# Altium schematic symbol library Res_Vishay_CRCW060322R0FKEAHP_eec.SchLib: 1 symbol
Pins are listed as number, name and electrical type; pins without a type are passive.

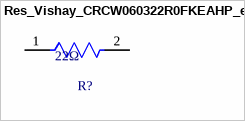
[diagram p0: symbol Res_Vishay_CRCW060322R0FKEAHP_eec]

## Res_Vishay_CRCW060322R0FKEAHP_eec
designator R?  Resistance: 22Ω
RES SMD 22 OHM 1% 1/4W 0603; Part Number: CRCW060322R0FKEAHP; Manufacturer: Vishay; Value: 22Ω; Mfg Package Ident: CRCW0603; Power: 250mW; helpURL: https://upverter.com/upn/revision/69fcd358f3beb7dc/; ComponentLink2Description: Datasheet; Temperature: -55°C to +155°C; Package: CRCW0603; Supplier 2: Mouser; Price: 0.0625785164154; Supplier 1: Digi-Key; ComponentLink1URL: https://upverter.com/upn/revision/69fcd358f3beb7dc/; Supplier Part Number 2: 71-CRCW060322R0FKEAH; Supplier Part Number 1: 541-22.0SCT-ND; ComponentLink1Description: Upverter; ComponentLink2URL: http://www.vishay.com/docs/20043/crcwhpe3.pdf; RoHS: TRUE; Mouser Part Number: 71-CRCW060322R0FKEAH; Temperature Range High: +155°C; Digikey Description: RES SMD 22 OHM 1% 1/4W 0603; Digikey Part Number: 541-22.0SCT-ND; Lead Free: yes; Temperature Range Low: -55°C
footprint Vishay_CRCW0603_0
pins: 1, 2